# Altium schematic symbol library LEMO-EXG.0B.306.SCHLIB: 1 symbol
Pins are listed as number, name and electrical type; pins without a type are passive.

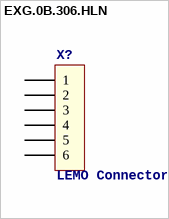
[diagram p0: symbol EXG.0B.306.HLN]

## EXG.0B.306.HLN
designator X?, comment LEMO Connector    6 pin EXG.0B.306.HLN Elbow receptacle for printed circuit (solder mount), Female Contact Drawing Rev. 00 Source: http://www.lemo.com/catalog/ROW/UK_English/unipole_multipole.pdf
MPN: EXG.0B.306.HLN; OC_FARNELL: unknown; OC_NEWARK: unknown
footprint EXG.0B.306.HLN
pins: 1, 2, 3, 4, 5, 6